# Altium footprint library SOT23-5.PcbLib: 1 footprints
Each footprint in its own frame and in the unit in brackets; x right, y up, seen from the top. Pads: shape width x height; smd on the part's side, far side on the other; paste and mask are expansions set on the pad; w line width, h text height; cw(c..) or ccw(c..) is an arc to the next point about the centre after c.
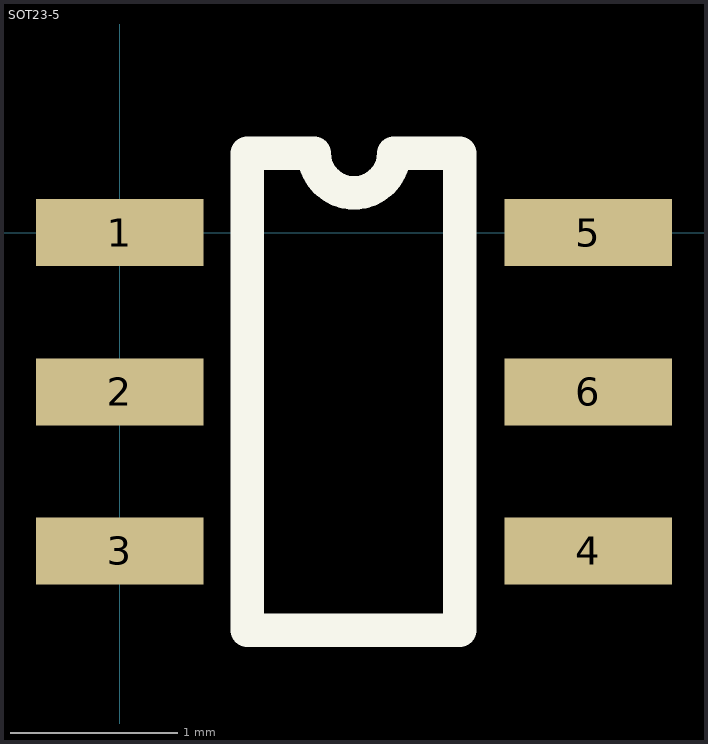
[diagram p0: the footprint, top view; thin cyan lines are the x and y axes]

## SOT23-5 [mm]
pads (6):
  rect 1x0.4 smd: 1(0,0) 2(0,-0.95) 3(0,-1.9) 4(2.8,-1.9) 5(2.8,0) 6(2.8,-0.95)
Top Overlay:
  lines w0.2: 0.762,-2.375 0.762,0.475 1.162,0.475 ccw(c1.4,0.475) 1.637,0.475 2.032,0.475 2.032,-2.375 0.762,-2.375